# Altium integrated library saw.IntLib: 3 symbols
Pins are listed as number, name and electrical type; pins without a type are passive.

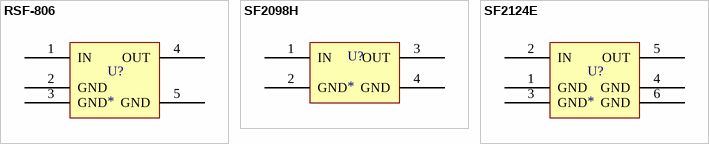
[diagram p0: symbols RSF-806 to SF2124E]

## RSF-806
designator U?
BAND 20 RF SAW FILTER / RSF-806.000-30000-1109-TR-NS1
footprint RSF-806.000 (5-Leads, Body 0.90x1.10mm, Pitch 0.50mm, IPC Medium Density)
pins: 1 IN, 2 GND, 3 GND, 4 OUT, 5 GND

## SF2098H
designator U?
RFMi 915 MHz SAW Filter
footprint SF2098H (RFMi 915 MHz  SAW Filter)
pins: 1 IN, 2 GND, 3 OUT, 4 GND

## SF2124E
designator U?
Signal Conditioning FILTER, SAW, 2441.8 MHZ, 6SMD
footprint FIL_SF2124E (SMD6)
pins: 1 GND, 2 IN, 3 GND, 4 GND, 5 OUT, 6 GND